# Altium footprint library SnapEDApcb.PcbLib: 1 footprints
Each footprint in its own frame and in the unit in brackets; x right, y up, seen from the top. Pads: shape width x height; smd on the part's side, far side on the other; paste and mask are expansions set on the pad; w line width, h text height; cw(c..) or ccw(c..) is an arc to the next point about the centre after c.
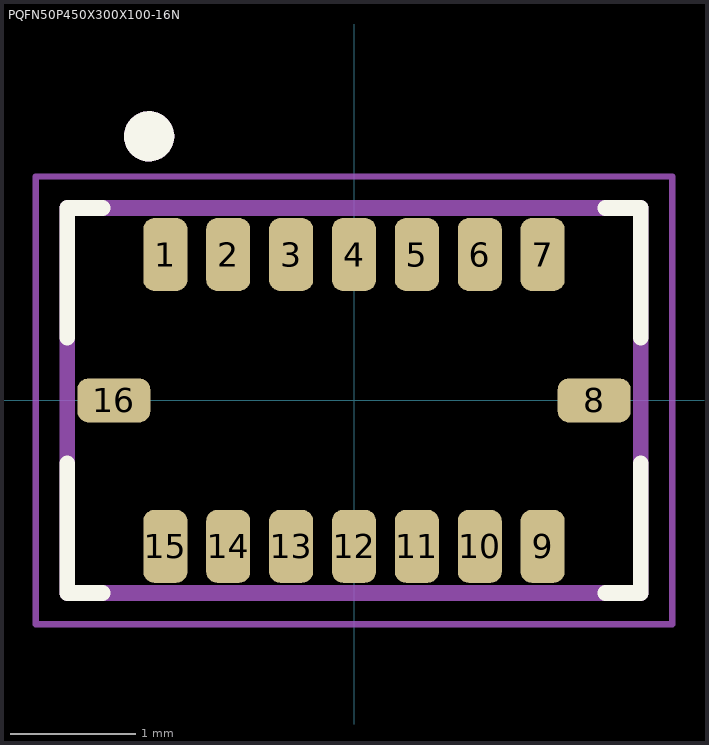
[diagram p0: the footprint, top view; thin cyan lines are the x and y axes]

## PQFN50P450X300X100-16N [mm]
pads (16):
  rrect50% 0.35x0.58 smd: 1(-1.5,1.16) 2(-1,1.16) 3(-0.5,1.16) 4(0,1.16) 5(0.5,1.16) 6(1,1.16) 7(1.5,1.16) 9(1.5,-1.16) 10(1,-1.16) 11(0.5,-1.16) 12(0,-1.16) 13(-0.5,-1.16) 14(-1,-1.16) 15(-1.5,-1.16)
  rrect50% 0.58x0.35 smd: 8(1.91,0) 16(-1.91,0)
Top Overlay:
  circle w0.2: c-1.629,2.1 r0.1
  lines w0.127: -2.28,-0.5 -2.28,-1.53 -2,-1.53 ; -2.28,0.5 -2.28,1.53 -2,1.53 ; 2,-1.53 2.28,-1.53 2.28,-0.5 ; 2,1.53 2.28,1.53 2.28,0.5
Mechanical 13:
  circle w0.2: c-1.629,2.1 r0.1
  lines w0.127: -2.28,-1.53 2.28,-1.53 2.28,1.53 -2.28,1.53 -2.28,-1.53
Mechanical 15:
  lines w0.05: -2.53,-1.78 2.53,-1.78 2.53,1.78 -2.53,1.78 -2.53,-1.78